# Altium schematic symbol library MergenElektronik_CircuitProtections_Fuses.SchLib: 1 symbol
Pins are listed as number, name and electrical type; pins without a type are passive.

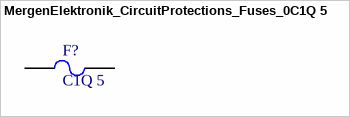
[diagram p0: symbol MergenElektronik_CircuitProtections_Fuses_0C1Q 5]

## MergenElektronik_CircuitProtections_Fuses_0C1Q 5
designator F?, comment C1Q 5
Mergen Elektronik - Circuit Protections - Fuses - 0C1Q 5; Manufacturer: Bel Fuse Inc.; Model: Fuse; Voltage Rating: 125V @ AC - 63V @ DC; Current Rating: 5 A; Breaking Capacity: 100A @ AC,- 50A @ DC; Melting I²t: 0.075; Response Time: Fast Blow; Digi-Key Number: 5923-C1Q5TR-ND; Manufacturer Number: C1Q 5; Mounting Type: Surface Mount; Mouser Number: 530-0ZCK0020FF2G; Package: 1206(3216); Temperature: -40°C up to 85°C; Value: C1Q 5; Supplier 1: Digi-Key; Supplier Part Number 1: 507-1811-6-ND
footprint MergenElektronik_CircuitProtections_Fuses_1206_l (1206 Large)
footprint MergenElektronik_CircuitProtections_Fuses_1206_L_NS (1206 Large - No Silkscreen)
footprint MergenElektronik_CircuitProtections_Fuses_1206_M (1206 Medium)
footprint MergenElektronik_CircuitProtections_Fuses_1206_M_NS (1206 Medium - No Silkscreen)
footprint MergenElektronik_CircuitProtections_Fuses_1206_S (1206 Small)
footprint MergenElektronik_CircuitProtections_Fuses_1206_S_NS (1206 Small - No Silkscreen)
pins: 1, 2